# Altium footprint library DC JACK.PcbLib: 1 footprints
Each footprint in its own frame and in the unit in brackets; x right, y up, seen from the top. Pads: shape width x height; smd on the part's side, far side on the other; paste and mask are expansions set on the pad; w line width, h text height; cw(c..) or ccw(c..) is an arc to the next point about the centre after c.
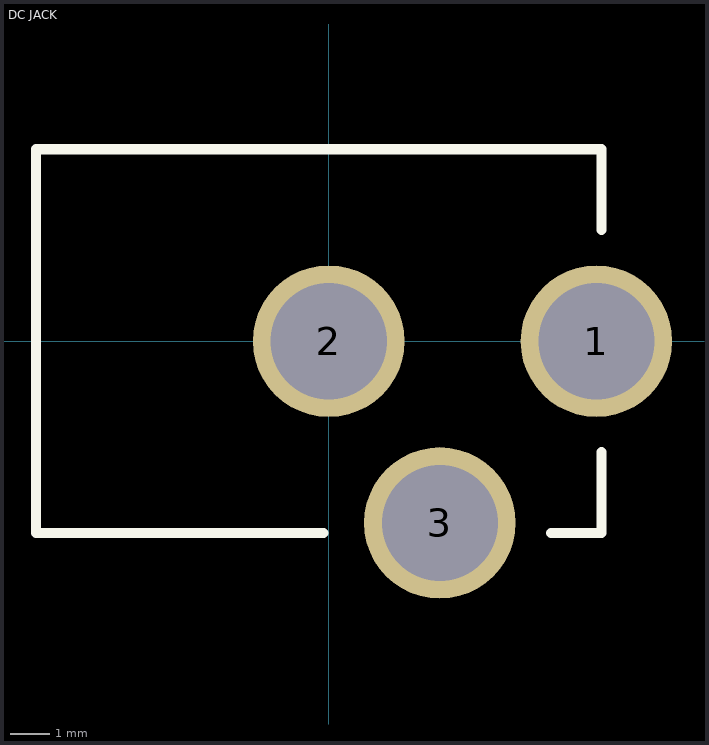
[diagram p0: the footprint, top view; thin cyan lines are the x and y axes]

## DC JACK [mil] "DC JACK"
pads (3):
  round 150 / inner round 150 / far side oval 150x200 hole 115: 1(265,0) 2(0,0)
  round 150 / inner round 150 / far side oval 200x150 hole 115: 3(110,-180)
Top Overlay:
  lines w10: -5,-190 -290,-190 -290,190 270,190 270,110 ; 220,-190 270,-190 270,-110